# Altium schematic symbol library PCB_Logo.SchLib: 1 symbol
Pins are listed as number, name and electrical type; pins without a type are passive.

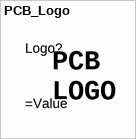
[diagram p0: symbol PCB_Logo]

## PCB_Logo
designator Logo?  (graphical)
=Description
text: PCB; LOGO